# EAGLE library part MAX11040 (library booz)
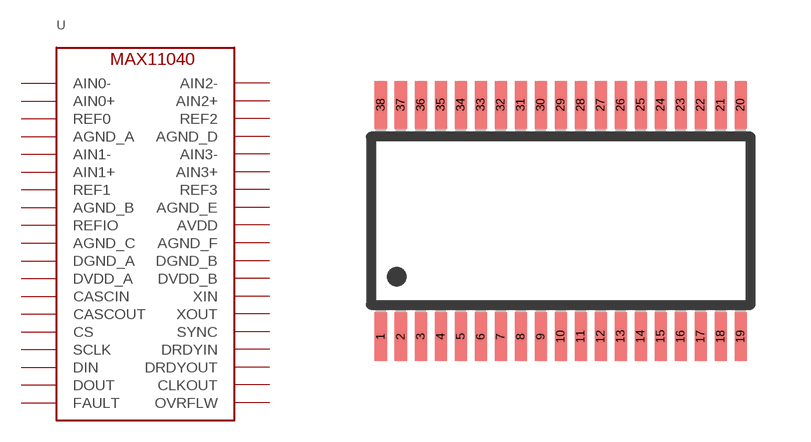
[diagram p12: symbol with the pads of TSSOP38; footprint TSSOP38]

Designator prefix -

## MAX11040  [TSSOP38]
1  AIN0-
2  AIN0+
3  REF0
4  AGND_A
5  AIN1-
6  AIN1+
7  REF1
8  AGND_B
9  REFIO
10  AGND_C
11  DGND_A
12  DVDD_A
13  CASCIN
14  CASCOUT
15  CS
16  SCLK
17  DIN
18  DOUT
19  FAULT
20  OVRFLW
21  CLKOUT
22  DRDYOUT
23  DRDYIN
24  SYNC
25  XOUT
26  XIN
27  DVDD_B
28  DGND_B
29  AGND_D
30  AVDD
31  AGND_E
32  REF3
33  AIN3+
34  AIN3-
35  AGND_F
36  REF2
37  AIN2+
38  AIN2-

## Footprint TSSOP38 (pad centres in mm)
smd 0.3 x 1.2: 1 -4.5,-1.63; 2 -4,-1.63; 3 -3.5,-1.63; 4 -3,-1.63; 5 -2.5,-1.63; 6 -2,-1.63; 7 -1.5,-1.63; 8 -1,-1.63; 9 -0.5,-1.63; 10 0,-1.63; 11 0.5,-1.63; 12 1,-1.63; 13 1.5,-1.63; 14 2,-1.63; 15 2.5,-1.63; 16 3,-1.63; 17 3.5,-1.63; 18 4,-1.63; 19 4.5,-1.63; 20 4.5,4.17; 21 4,4.17; 22 3.5,4.17; 23 3,4.17; 24 2.5,4.17; 25 2,4.17; 26 1.5,4.17; 27 1,4.17; 28 0.5,4.17; 29 0,4.17; 30 -0.5,4.17; 31 -1,4.17; 32 -1.5,4.17; 33 -2,4.17; 34 -2.5,4.17; 35 -3,4.17; 36 -3.5,4.17; 37 -4,4.17; 38 -4.5,4.17